# Altium footprint library PCB - LEADLESS - QFN - NXP QFN16 FG 3x3mm.PcbLib: 1 footprints
Each footprint in its own frame and in the unit in brackets; x right, y up, seen from the top. Pads: shape width x height; smd on the part's side, far side on the other; paste and mask are expansions set on the pad; w line width, h text height; cw(c..) or ccw(c..) is an arc to the next point about the centre after c.
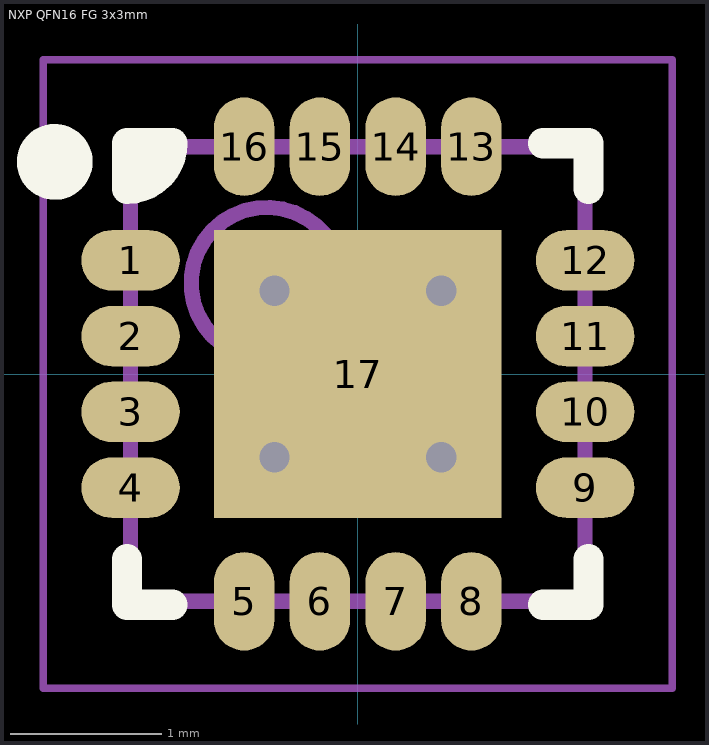
[diagram p0: the footprint, top view; thin cyan lines are the x and y axes]

## NXP QFN16 FG 3x3mm [mm] "QFN, 16-Leads, Body 3.00x3.00mm, Pitch 0.50mm, Thermal Pad 1.90x1.90mm, IPC Medium Density"
height 0.65
pads (17):
  oval 0.65x0.4 smd: 1(-1.5,0.75) 2(-1.5,0.25) 3(-1.5,-0.25) 4(-1.5,-0.75) 9(1.5,-0.75) 10(1.5,-0.25) 11(1.5,0.25) 12(1.5,0.75)
  oval 0.4x0.65 smd: 5(-0.75,-1.5) 6(-0.25,-1.5) 7(0.25,-1.5) 8(0.75,-1.5) 13(0.75,1.5) 14(0.25,1.5) 15(-0.25,1.5) 16(-0.75,1.5)
  rect 1.9x1.9 smd: 17(0,0)
via 0.55,-0.55 diameter 0.5 hole 0.2
via -0.55,-0.55 diameter 0.5 hole 0.2
via 0.55,0.55 diameter 0.5 hole 0.2
via -0.55,0.55 diameter 0.5 hole 0.2
Top Overlay:
  circle w0.25: c-2,1.4 r0.125
  region: -1.5,1.5 -1.223,1.523 -1.3,1.3 -1.523,1.223
  lines w0.2: -1.523,-1.223 -1.523,-1.523 -1.223,-1.523 ; 1.223,-1.523 1.523,-1.523 1.523,-1.223 ; 1.223,1.523 1.523,1.523 1.523,1.223 ; -1.523,1.223 ccw(c-1.523,1.523) -1.223,1.523 -1.523,1.523 -1.523,1.223
Mechanical 13:
  circle w0.1: c-0.6,0.6 r0.5
  lines w0.1: -1.5,-1.5 1.5,-1.5 1.5,1.5 -1.5,1.5 -1.5,-1.5
Mechanical 15:
  lines w0.05: -2.075,-2.075 2.075,-2.075 2.075,2.075 -2.075,2.075 -2.075,-2.075
  lines w0.1: -0.5,0 0.5,0 ; 0,-0.5 0,0.5
3D body "NXP - QFN16 FG 3x3mm v2.step": height 0.65, standoff 0, extent -1.5,-1.5 1.5,1.5